# EAGLE library part LM2664M6 (library ds_ic_vreg)
Charge Pump Switching Regulator IC Positive or Negative Fixed -Vin, 2Vin 1 Output 40mA SOT-23-6
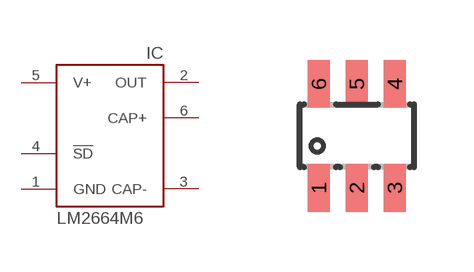
[diagram p15: symbol with the pads of SOT23-6; footprint SOT23-6]

Designator prefix IC

## LM2664M6 (DATASHEET: https://www.ti.com/lit/ds/symlink/lm2664.pdf?HQS=dis-dk-null-digikeymode-dsf-pf-null-wwe&ts=1761292174240&ref_url=https%253A%252F%252Fwww.ti.com%252Fgeneral%252Fdocs%252Fsuppproductinfo.tsp%253FdistId%253D10%2526gotoUrl%253Dhttps%253A%252F%252Fwww.ti.com%252Flit%252Fgpn%252Flm2664; DESCRIPTION: Charge Pump Switching Regulator IC Positive or Negative Fixed -Vin, 2Vin 1 Output 40mA SOT-23-6; HQ_PART: IC0059658; LCSC_PART: C840095; MANUFACTURER: Texas Instruments; MPN: LM2664M6/NOPB; ROHS: YES; VALUE: LM2664M6)  [SOT23-6]
1  GND  pwr
2  OUT  pwr
3  CAP-
4  !SD
5  V+  pwr
6  CAP+

## Footprint SOT23-6 (pad centres in mm)
smd 0.55 x 1.2: 1 -0.95,-1.3; 2 0,-1.3; 3 0.95,-1.3; 4 0.95,1.3; 5 0,1.3; 6 -0.95,1.3